# EAGLE library part PINHD-1X27 (library con-pinhead)
PIN HEADER
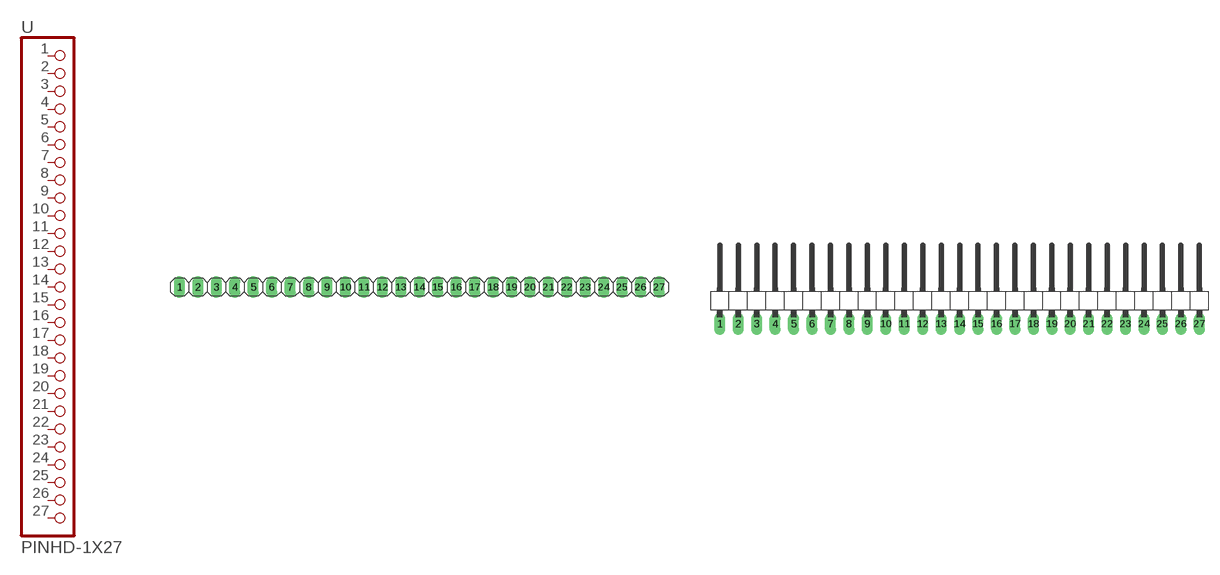
[diagram p44: symbol with the pads of 1X27; footprints 1X27, 1X27/90]

Designator prefix -

## PINHD-1X27_2.54  [1X27]
1  1  pas
2  2  pas
3  3  pas
4  4  pas
5  5  pas
6  6  pas
7  7  pas
8  8  pas
9  9  pas
10  10  pas
11  11  pas
12  12  pas
13  13  pas
14  14  pas
15  15  pas
16  16  pas
17  17  pas
18  18  pas
19  19  pas
20  20  pas
21  21  pas
22  22  pas
23  23  pas
24  24  pas
25  25  pas
26  26  pas
27  27  pas

## PINHD-1X27_2.54-90°  [1X27/90]
Pads as for 1X27

## PINHD-1X27_2.00  [1X27M]
Pads as for 1X27

## PINHD-1X27_2.54-SMD  [1X27SMD]
Pads as for 1X27

## PINHD-1X27_2.54-SMD-90°  [1X27SMD/90]
Pads as for 1X27

## Footprint 1X27 (pad centres in mm)
PIN HEADER - 2.54
drill 1.016 long: 1 -29.21,0; 2 -26.67,0; 3 -24.13,0; 4 -21.59,0; 5 -19.05,0; 6 -16.51,0; 7 -13.97,0; 8 -11.43,0; 9 -8.89,0; 10 -6.35,0; 11 -3.81,0; 12 -1.27,0; 13 1.27,0; 14 3.81,0; 15 6.35,0; 16 8.89,0; 17 11.43,0; 18 13.97,0; 19 16.51,0; 20 19.05,0; 21 21.59,0; 22 24.13,0; 23 26.67,0; 24 29.21,0; 25 31.75,0; 26 34.29,0; 27 36.83,0

## Footprint 1X27/90 (pad centres in mm)
PIN HEADER - 2.54 90°
drill 1.016 long: 1 -24.13,-3.81; 2 -21.59,-3.81; 3 -19.05,-3.81; 4 -16.51,-3.81; 5 -13.97,-3.81; 6 -11.43,-3.81; 7 -8.89,-3.81; 8 -6.35,-3.81; 9 -3.81,-3.81; 10 -1.27,-3.81; 11 1.27,-3.81; 12 3.81,-3.81; 13 6.35,-3.81; 14 8.89,-3.81; 15 11.43,-3.81; 16 13.97,-3.81; 17 16.51,-3.81; 18 19.05,-3.81; 19 21.59,-3.81; 20 24.13,-3.81; 21 26.67,-3.81; 22 29.21,-3.81; 23 31.75,-3.81; 24 34.29,-3.81; 25 36.83,-3.81; 26 39.37,-3.81; 27 41.91,-3.81

## Footprint 1X27M (pad centres in mm)
PIN HEADER - 2
drill 0.914 square: 1 -24,0
drill 0.914: 2 -22,0; 3 -20,0; 4 -18,0; 5 -16,0; 6 -14,0; 7 -12,0; 8 -10,0; 9 -8,0; 10 -6,0; 11 -4,0; 12 -2,0; 13 0,0; 14 2,0; 15 4,0; 16 6,0; 17 8,0; 18 10,0; 19 12,0; 20 14,0; 21 16,0; 22 18,0; 23 20,0; 24 22,0; 25 24,0; 26 26,0; 27 28,0

## Footprint 1X27SMD (pad centres in mm)
PIN HEADER - 2.54 SMD
smd 1.016 x 3.302: 1 -1.27,1.27; 2 1.27,-1.27; 3 3.81,1.27; 4 6.35,-1.27; 5 8.89,1.27; 6 11.43,-1.27; 7 13.97,1.27; 8 16.51,-1.27; 9 19.05,1.27; 10 21.59,-1.27; 11 24.13,1.27; 12 26.67,-1.27; 13 29.21,1.27; 14 31.75,-1.27; 15 34.29,1.27; 16 36.83,-1.27; 17 39.37,1.27; 18 41.91,-1.27; 19 44.45,1.27; 20 46.99,-1.27; 21 49.53,1.27; 22 52.07,-1.27; 23 54.61,1.27; 24 57.15,-1.27; 25 59.69,1.27; 26 62.23,-1.27; 27 64.77,1.27

## Footprint 1X27SMD/90 (pad centres in mm)
PIN HEADER - 2.54 90°
smd 1.016 x 1.778: 1 -1.27,-5.08; 2 1.27,-5.08; 3 3.81,-5.08; 4 6.35,-5.08; 5 8.89,-5.08; 6 11.43,-5.08; 7 13.97,-5.08; 8 16.51,-5.08; 9 19.05,-5.08; 10 21.59,-5.08; 11 24.13,-5.08; 12 26.67,-5.08; 13 29.21,-5.08; 14 31.75,-5.08; 15 34.29,-5.08; 16 36.83,-5.08; 17 39.37,-5.08; 18 41.91,-5.08; 19 44.45,-5.08; 20 46.99,-5.08; 21 49.53,-5.08; 22 52.07,-5.08; 23 54.61,-5.08; 24 57.15,-5.08; 25 59.69,-5.08; 26 62.23,-5.08; 27 64.77,-5.08